# EAGLE library part 2G07 (library U-7400)
BUFFER OPEN DRAIN Z4 [DIODES,74LVC2G07W6-7] LOGIC BUFFER OPEN DRAIN SOT26
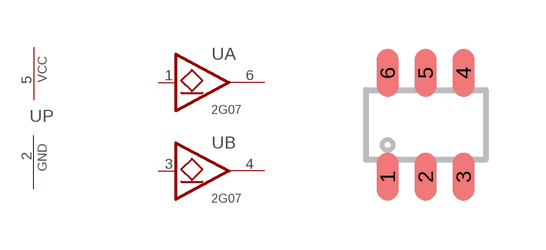
[diagram p326: symbol with the pads of SOT23-6,SOT26; footprint SOT23-6,SOT26]

Designator prefix U; gates A=7407 B=7407 P=PWRN

## 2G07SOT26  [SOT23-6,SOT26]
1  A:I  in
2  P:GND  pwr
3  B:I  in
4  B:O  oc
5  P:VCC  sup
6  A:O  oc

## Footprint SOT23-6,SOT26 (pad centres in mm)
Small Outline SOT23-6, SOT26, SC-74A
smd 0.55 x 1.2: 1 -0.95,-1.3; 2 0,-1.3; 3 0.95,-1.3; 4 0.95,1.3; 5 0,1.3; 6 -0.95,1.3